# Altium footprint library Connector_PinHeader_2.54mm.PcbLib: 278 footprints (part 1 of 18)
Each footprint in its own frame and in the unit in brackets; x right, y up, seen from the top. Pads: shape width x height; smd on the part's side, far side on the other; paste and mask are expansions set on the pad; w line width, h text height; cw(c..) or ccw(c..) is an arc to the next point about the centre after c.
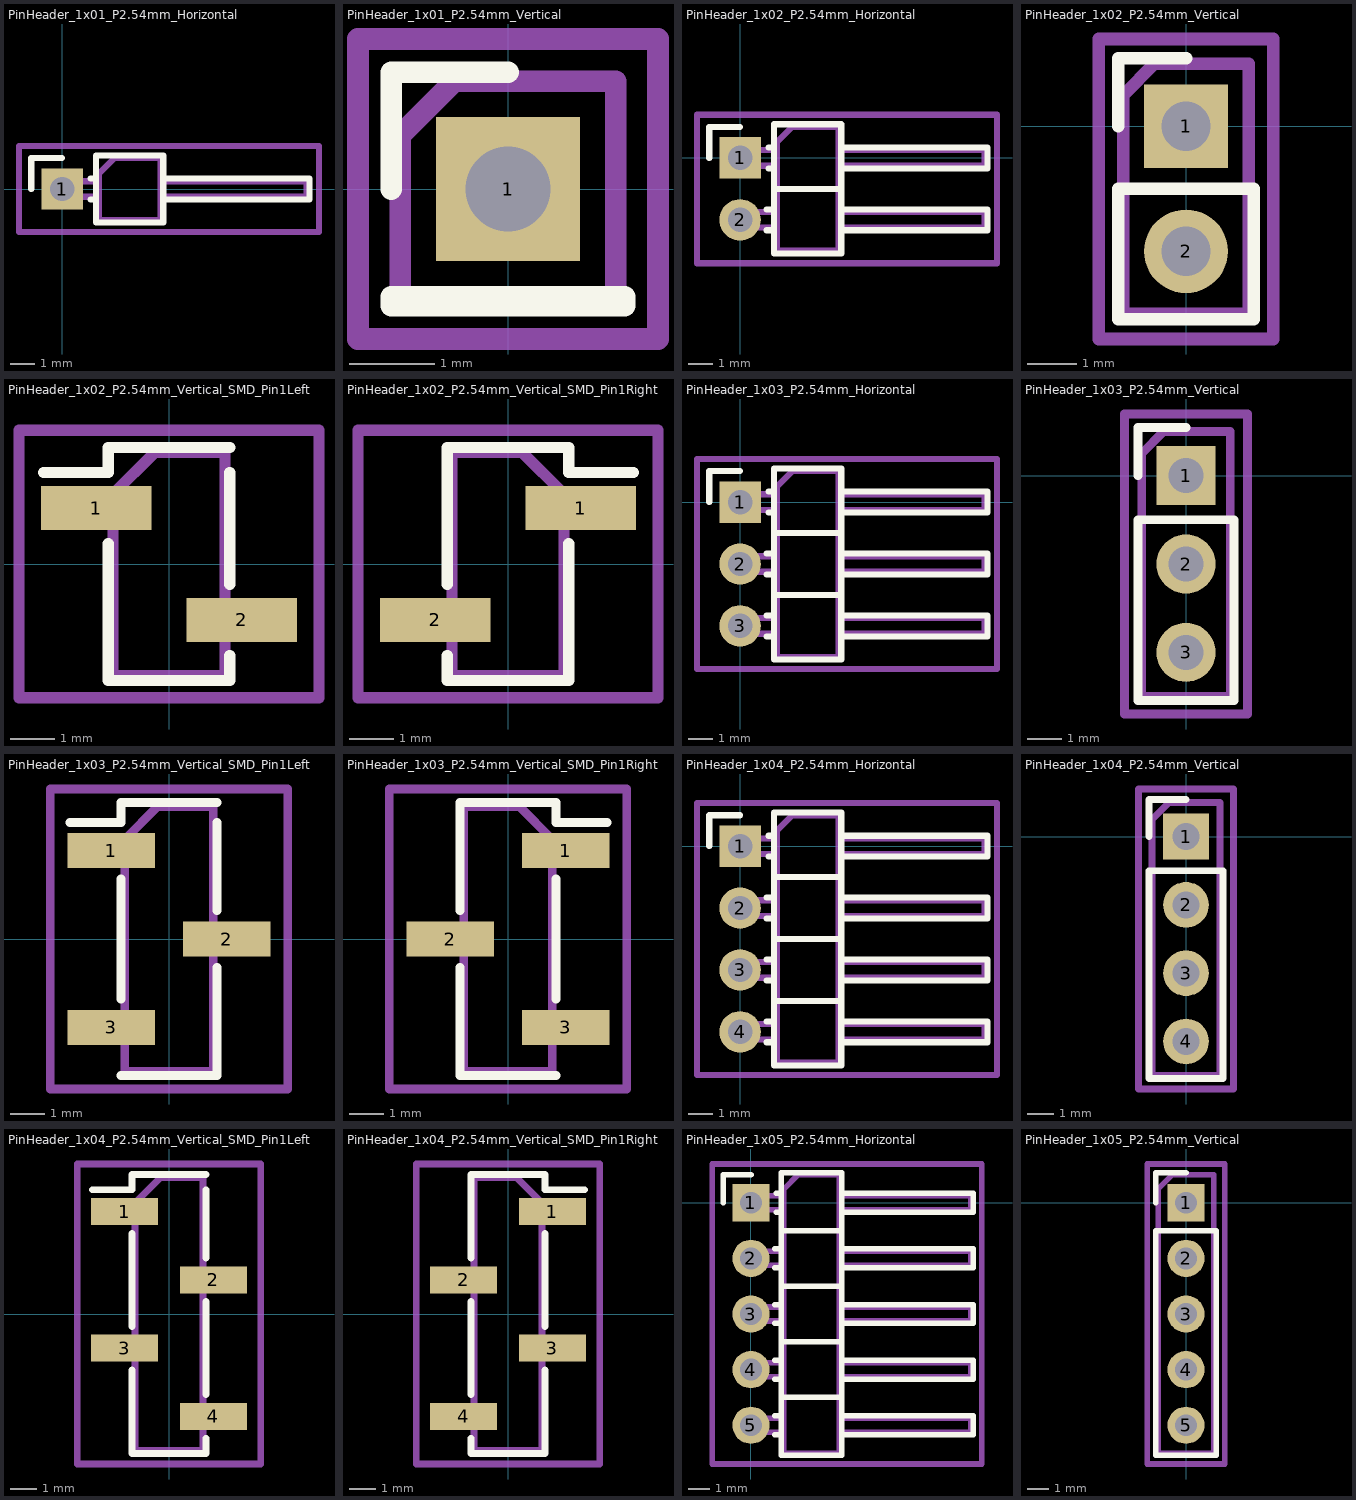
[diagram p0: the footprints below, top view; thin cyan lines are the x and y axes]

## PinHeader_1x01_P2.54mm_Horizontal [mm]
pads (1):
  rect 1.7x1.7 hole 1: 1(0,0)
F.SilkS:
  lines w0.254: -1.27,0 -1.27,1.27 0,1.27 ; 1.16,-0.43 1.39,-0.43 ; 1.16,0.43 1.39,0.43 ; 1.39,-1.38 1.39,1.38 4.15,1.38 4.15,-1.38 1.39,-1.38 ; 4.15,-0.43 4.15,0.43 10.15,0.43 10.15,-0.43 4.15,-0.43
Top Assembly:
  lines w0.254: 1.5,-0.32 -0.32,-0.32 -0.32,0.32 1.5,0.32 ; 4.04,-0.32 10.04,-0.32 10.04,0.32 4.04,0.32 ; 1.5,-1.27 1.5,0.635 2.135,1.27 4.04,1.27 4.04,-1.27 1.5,-1.27
  text "'.Designator'" at 3.61,-4.047 h1
Top Courtyard:
  lines w0.254: -1.77,-1.77 -1.77,1.77 10.54,1.77 10.54,-1.77 -1.77,-1.77
Top Designator:
  text ".Designator" at -3.233,-0.658 h1.52

## PinHeader_1x01_P2.54mm_Vertical [mm]
pads (1):
  rect 1.7x1.7 hole 1: 1(0,0)
F.SilkS:
  lines w0.254: -1.38,0 -1.38,1.38 0,1.38 ; -1.38,-1.38 1.38,-1.38 1.38,-1.27 -1.38,-1.27 -1.38,-1.38
Top Assembly:
  lines w0.254: -1.27,-1.27 1.27,-1.27 1.27,1.27 -0.635,1.27 -1.27,0.635 -1.27,-1.27
  text "'.Designator'" at 0.84,-4.047 h1
Top Courtyard:
  lines w0.254: -1.77,-1.77 1.77,-1.77 1.77,1.77 -1.77,1.77 -1.77,-1.77
Top Designator:
  text ".Designator" at -7.618,-0.658 h1.52

## PinHeader_1x02_P2.54mm_Horizontal [mm]
pads (2):
  rect 1.7x1.7 hole 1: 1(0,0)
  round 1.7 hole 1: 2(0,-2.54)
F.SilkS:
  lines w0.254: -1.27,0 -1.27,1.27 0,1.27 ; 1.077,-2.97 1.39,-2.97 ; 1.077,-2.11 1.39,-2.11 ; 1.16,-0.43 1.39,-0.43 ; 1.16,0.43 1.39,0.43 ; 1.39,-1.27 4.15,-1.27 ; 4.15,-2.97 10.15,-2.97 10.15,-2.11 4.15,-2.11 ; 1.39,-3.92 4.15,-3.92 4.15,1.38 1.39,1.38 1.39,-3.92 ; 4.15,-0.43 10.15,-0.43 10.15,0.43 4.15,0.43 4.15,-0.43
Top Assembly:
  lines w0.254: 1.5,-2.86 -0.32,-2.86 -0.32,-2.22 1.5,-2.22 ; 1.5,-0.32 -0.32,-0.32 -0.32,0.32 1.5,0.32 ; 4.04,-2.86 10.04,-2.86 10.04,-2.22 4.04,-2.22 ; 4.04,-0.32 10.04,-0.32 10.04,0.32 4.04,0.32 ; 1.5,-3.81 4.04,-3.81 4.04,1.27 2.135,1.27 1.5,0.635 1.5,-3.81
  text "'.Designator'" at 3.61,-5.317 h1
Top Courtyard:
  lines w0.254: -1.77,-4.32 10.54,-4.32 10.54,1.77 -1.77,1.77 -1.77,-4.32
Top Designator:
  text ".Designator" at -3.233,-1.928 h1.52

## PinHeader_1x02_P2.54mm_Vertical [mm]
pads (2):
  rect 1.7x1.7 hole 1: 1(0,0)
  round 1.7 hole 1: 2(0,-2.54)
F.SilkS:
  lines w0.254: -1.38,0 -1.38,1.38 0,1.38 ; -1.38,-3.92 1.38,-3.92 1.38,-1.27 -1.38,-1.27 -1.38,-3.92
Top Assembly:
  lines w0.254: -1.27,-3.81 1.27,-3.81 1.27,1.27 -0.635,1.27 -1.27,0.635 -1.27,-3.81
  text "'.Designator'" at 0.84,-5.317 h1
Top Courtyard:
  lines w0.254: -1.77,-4.32 1.77,-4.32 1.77,1.77 -1.77,1.77 -1.77,-4.32
Top Designator:
  text ".Designator" at -7.618,-1.928 h1.52

## PinHeader_1x02_P2.54mm_Vertical_SMD_Pin1Left [mm]
pads (2):
  rect 2.51x1 smd: 1(-1.655,1.27) 2(1.655,-1.27)
F.SilkS:
  lines w0.254: -2.85,2.08 -1.38,2.08 -1.38,2.65 1.38,2.65 ; -1.38,0.46 -1.38,-2.65 1.38,-2.65 1.38,-2.08 ; 1.38,-0.46 1.38,2.08
Top Assembly:
  lines w0.254: -1.27,0.95 -2.54,0.95 -2.54,1.59 -1.27,1.59 ; 1.27,-1.59 2.54,-1.59 2.54,-0.95 1.27,-0.95 ; -1.27,1.59 -1.27,-2.54 1.27,-2.54 1.27,2.54 -0.32,2.54 -1.27,1.59
  text "'.Designator'" at 0.84,-4.047 h1
Top Courtyard:
  lines w0.254: -3.41,-3.04 3.41,-3.04 3.41,3.04 -3.41,3.04 -3.41,-3.04
Top Designator:
  text ".Designator" at -7.618,-0.658 h1.52

## PinHeader_1x02_P2.54mm_Vertical_SMD_Pin1Right [mm]
pads (2):
  rect 2.51x1 smd: 1(1.655,1.27) 2(-1.655,-1.27)
F.SilkS:
  lines w0.254: -1.38,-2.08 -1.38,-2.65 1.38,-2.65 1.38,0.46 ; -1.38,2.08 -1.38,-0.46 -1.38,2.65 1.38,2.65 1.38,2.08 2.85,2.08
Top Assembly:
  lines w0.254: -1.27,-1.59 -2.54,-1.59 -2.54,-0.95 -1.27,-0.95 ; 1.27,0.95 2.54,0.95 2.54,1.59 1.27,1.59 ; 1.27,1.59 1.27,-2.54 -1.27,-2.54 -1.27,2.54 0.32,2.54 1.27,1.59
  text "'.Designator'" at 0.84,-4.047 h1
Top Courtyard:
  lines w0.254: -3.41,-3.04 3.41,-3.04 3.41,3.04 -3.41,3.04 -3.41,-3.04
Top Designator:
  text ".Designator" at -7.618,-0.658 h1.52

## PinHeader_1x03_P2.54mm_Horizontal [mm]
pads (3):
  rect 1.7x1.7 hole 1: 1(0,0)
  round 1.7 hole 1: 2(0,-2.54) 3(0,-5.08)
F.SilkS:
  lines w0.254: -1.27,0 -1.27,1.27 0,1.27 ; 1.077,-5.51 1.39,-5.51 ; 1.077,-4.65 1.39,-4.65 ; 1.077,-2.97 1.39,-2.97 ; 1.077,-2.11 1.39,-2.11 ; 1.16,-0.43 1.39,-0.43 ; 1.16,0.43 1.39,0.43 ; 1.39,-3.81 4.15,-3.81 ; 1.39,-1.27 4.15,-1.27 ; 4.15,-5.51 10.15,-5.51 10.15,-4.65 4.15,-4.65 ; 4.15,-2.97 10.15,-2.97 10.15,-2.11 4.15,-2.11 ; 1.39,-6.46 4.15,-6.46 4.15,1.38 1.39,1.38 1.39,-6.46 ; 4.15,-0.43 10.15,-0.43 10.15,0.43 4.15,0.43 4.15,-0.43
Top Assembly:
  lines w0.254: 1.5,-5.4 -0.32,-5.4 -0.32,-4.76 1.5,-4.76 ; 1.5,-2.86 -0.32,-2.86 -0.32,-2.22 1.5,-2.22 ; 1.5,-0.32 -0.32,-0.32 -0.32,0.32 1.5,0.32 ; 4.04,-5.4 10.04,-5.4 10.04,-4.76 4.04,-4.76 ; 4.04,-2.86 10.04,-2.86 10.04,-2.22 4.04,-2.22 ; 4.04,-0.32 10.04,-0.32 10.04,0.32 4.04,0.32 ; 1.5,-6.35 4.04,-6.35 4.04,1.27 2.135,1.27 1.5,0.635 1.5,-6.35
  text "'.Designator'" at 3.61,-6.587 h1
Top Courtyard:
  lines w0.254: -1.77,-6.85 10.54,-6.85 10.54,1.77 -1.77,1.77 -1.77,-6.85
Top Designator:
  text ".Designator" at -3.233,-3.048 h1.52

## PinHeader_1x03_P2.54mm_Vertical [mm]
pads (3):
  rect 1.7x1.7 hole 1: 1(0,0)
  round 1.7 hole 1: 2(0,-2.54) 3(0,-5.08)
F.SilkS:
  lines w0.254: -1.38,0 -1.38,1.38 0,1.38 ; -1.38,-6.46 1.38,-6.46 1.38,-1.27 -1.38,-1.27 -1.38,-6.46
Top Assembly:
  lines w0.254: -1.27,-6.35 1.27,-6.35 1.27,1.27 -0.635,1.27 -1.27,0.635 -1.27,-6.35
  text "'.Designator'" at 0.84,-6.587 h1
Top Courtyard:
  lines w0.254: -1.77,-6.85 1.77,-6.85 1.77,1.77 -1.77,1.77 -1.77,-6.85
Top Designator:
  text ".Designator" at -7.618,-3.048 h1.52

## PinHeader_1x03_P2.54mm_Vertical_SMD_Pin1Left [mm]
pads (3):
  rect 2.51x1 smd: 1(-1.655,2.54) 2(1.655,0) 3(-1.655,-2.54)
F.SilkS:
  lines w0.254: -2.85,3.35 -1.38,3.35 -1.38,3.92 1.38,3.92 ; -1.38,-3.92 1.38,-3.92 ; -1.38,-1.73 -1.38,1.73 ; 1.38,-3.35 1.38,-3.92 ; 1.38,-0.81 1.38,-3.92 ; 1.38,0.81 1.38,3.35
Top Assembly:
  lines w0.254: -1.27,-2.86 -2.54,-2.86 -2.54,-2.22 -1.27,-2.22 ; -1.27,2.22 -2.54,2.22 -2.54,2.86 -1.27,2.86 ; 1.27,-0.32 2.54,-0.32 2.54,0.32 1.27,0.32 ; -1.27,2.86 -1.27,-3.81 1.27,-3.81 1.27,3.81 -0.32,3.81 -1.27,2.86
  text "'.Designator'" at 0.84,-4.047 h1
Top Courtyard:
  lines w0.254: -3.41,-4.31 3.41,-4.31 3.41,4.31 -3.41,4.31 -3.41,-4.31
Top Designator:
  text ".Designator" at -7.618,-0.508 h1.52

## PinHeader_1x03_P2.54mm_Vertical_SMD_Pin1Right [mm]
pads (3):
  rect 2.51x1 smd: 1(1.655,2.54) 2(-1.655,0) 3(1.655,-2.54)
F.SilkS:
  lines w0.254: -1.38,-3.35 -1.38,-3.92 ; -1.38,-0.81 -1.38,-3.92 ; -1.38,3.35 -1.38,0.81 -1.38,3.92 1.38,3.92 1.38,3.35 2.85,3.35 ; 1.38,-3.92 -1.38,-3.92 ; 1.38,-1.73 1.38,1.73
Top Assembly:
  lines w0.254: -1.27,-0.32 -2.54,-0.32 -2.54,0.32 -1.27,0.32 ; 1.27,-2.86 2.54,-2.86 2.54,-2.22 1.27,-2.22 ; 1.27,2.22 2.54,2.22 2.54,2.86 1.27,2.86 ; 1.27,2.86 1.27,-3.81 -1.27,-3.81 -1.27,3.81 0.32,3.81 1.27,2.86
  text "'.Designator'" at 0.84,-4.047 h1
Top Courtyard:
  lines w0.254: -3.41,-4.31 3.41,-4.31 3.41,4.31 -3.41,4.31 -3.41,-4.31
Top Designator:
  text ".Designator" at -7.618,-0.508 h1.52

## PinHeader_1x04_P2.54mm_Horizontal [mm]
pads (4):
  rect 1.7x1.7 hole 1: 1(0,0)
  round 1.7 hole 1: 2(0,-2.54) 3(0,-5.08) 4(0,-7.62)
F.SilkS:
  lines w0.254: -1.27,0 -1.27,1.27 0,1.27 ; 1.077,-8.05 1.39,-8.05 ; 1.077,-7.19 1.39,-7.19 ; 1.077,-5.51 1.39,-5.51 ; 1.077,-4.65 1.39,-4.65 ; 1.077,-2.97 1.39,-2.97 ; 1.077,-2.11 1.39,-2.11 ; 1.16,-0.43 1.39,-0.43 ; 1.16,0.43 1.39,0.43 ; 1.39,-6.35 4.15,-6.35 ; 1.39,-3.81 4.15,-3.81 ; 1.39,-1.27 4.15,-1.27 ; 4.15,-8.05 10.15,-8.05 10.15,-7.19 4.15,-7.19 ; 4.15,-5.51 10.15,-5.51 10.15,-4.65 4.15,-4.65 ; 4.15,-2.97 10.15,-2.97 10.15,-2.11 4.15,-2.11 ; 1.39,-9 4.15,-9 4.15,1.38 1.39,1.38 1.39,-9 ; 4.15,-0.43 10.15,-0.43 10.15,0.43 4.15,0.43 4.15,-0.43
Top Assembly:
  lines w0.254: 1.5,-7.94 -0.32,-7.94 -0.32,-7.3 1.5,-7.3 ; 1.5,-5.4 -0.32,-5.4 -0.32,-4.76 1.5,-4.76 ; 1.5,-2.86 -0.32,-2.86 -0.32,-2.22 1.5,-2.22 ; 1.5,-0.32 -0.32,-0.32 -0.32,0.32 1.5,0.32 ; 4.04,-7.94 10.04,-7.94 10.04,-7.3 4.04,-7.3 ; 4.04,-5.4 10.04,-5.4 10.04,-4.76 4.04,-4.76 ; 4.04,-2.86 10.04,-2.86 10.04,-2.22 4.04,-2.22 ; 4.04,-0.32 10.04,-0.32 10.04,0.32 4.04,0.32 ; 1.5,-8.89 4.04,-8.89 4.04,1.27 2.135,1.27 1.5,0.635 1.5,-8.89
  text "'.Designator'" at 3.61,-7.857 h1
Top Courtyard:
  lines w0.254: -1.77,-9.39 10.54,-9.39 10.54,1.77 -1.77,1.77 -1.77,-9.39
Top Designator:
  text ".Designator" at -3.233,-4.318 h1.52

## PinHeader_1x04_P2.54mm_Vertical [mm]
pads (4):
  rect 1.7x1.7 hole 1: 1(0,0)
  round 1.7 hole 1: 2(0,-2.54) 3(0,-5.08) 4(0,-7.62)
F.SilkS:
  lines w0.254: -1.38,0 -1.38,1.38 0,1.38 ; -1.38,-9 1.38,-9 1.38,-1.27 -1.38,-1.27 -1.38,-9
Top Assembly:
  lines w0.254: -1.27,-8.89 1.27,-8.89 1.27,1.27 -0.635,1.27 -1.27,0.635 -1.27,-8.89
  text "'.Designator'" at 0.84,-7.857 h1
Top Courtyard:
  lines w0.254: -1.77,-9.39 1.77,-9.39 1.77,1.77 -1.77,1.77 -1.77,-9.39
Top Designator:
  text ".Designator" at -7.618,-4.318 h1.52

## PinHeader_1x04_P2.54mm_Vertical_SMD_Pin1Left [mm]
pads (4):
  rect 2.51x1 smd: 1(-1.655,3.81) 2(1.655,1.27) 3(-1.655,-1.27) 4(1.655,-3.81)
F.SilkS:
  lines w0.254: -2.85,4.62 -1.38,4.62 -1.38,5.19 1.38,5.19 ; -1.38,-2.08 -1.38,-5.19 1.38,-5.19 1.38,-4.62 ; -1.38,-0.46 -1.38,3 ; 1.38,-3 1.38,0.46 ; 1.38,2.08 1.38,4.62
Top Assembly:
  lines w0.254: -1.27,-1.59 -2.54,-1.59 -2.54,-0.95 -1.27,-0.95 ; -1.27,3.49 -2.54,3.49 -2.54,4.13 -1.27,4.13 ; 1.27,-4.13 2.54,-4.13 2.54,-3.49 1.27,-3.49 ; 1.27,0.95 2.54,0.95 2.54,1.59 1.27,1.59 ; -1.27,4.13 -1.27,-5.08 1.27,-5.08 1.27,5.08 -0.32,5.08 -1.27,4.13
  text "'.Designator'" at 0.84,-4.047 h1
Top Courtyard:
  lines w0.254: -3.41,-5.58 3.41,-5.58 3.41,5.58 -3.41,5.58 -3.41,-5.58
Top Designator:
  text ".Designator" at -7.618,-0.508 h1.52

## PinHeader_1x04_P2.54mm_Vertical_SMD_Pin1Right [mm]
pads (4):
  rect 2.51x1 smd: 1(1.655,3.81) 2(-1.655,1.27) 3(1.655,-1.27) 4(-1.655,-3.81)
F.SilkS:
  lines w0.254: -1.38,-4.62 -1.38,-5.19 1.38,-5.19 1.38,-2.08 ; -1.38,-3 -1.38,0.46 ; -1.38,4.62 -1.38,2.08 -1.38,5.19 1.38,5.19 1.38,4.62 2.85,4.62 ; 1.38,-0.46 1.38,3
Top Assembly:
  lines w0.254: -1.27,-4.13 -2.54,-4.13 -2.54,-3.49 -1.27,-3.49 ; -1.27,0.95 -2.54,0.95 -2.54,1.59 -1.27,1.59 ; 1.27,-1.59 2.54,-1.59 2.54,-0.95 1.27,-0.95 ; 1.27,3.49 2.54,3.49 2.54,4.13 1.27,4.13 ; 1.27,4.13 1.27,-5.08 -1.27,-5.08 -1.27,5.08 0.32,5.08 1.27,4.13
  text "'.Designator'" at 0.84,-4.047 h1
Top Courtyard:
  lines w0.254: -3.41,-5.58 3.41,-5.58 3.41,5.58 -3.41,5.58 -3.41,-5.58
Top Designator:
  text ".Designator" at -7.618,-0.508 h1.52

## PinHeader_1x05_P2.54mm_Horizontal [mm]
pads (5):
  rect 1.7x1.7 hole 1: 1(0,0)
  round 1.7 hole 1: 2(0,-2.54) 3(0,-5.08) 4(0,-7.62) 5(0,-10.16)
F.SilkS:
  lines w0.254: -1.27,0 -1.27,1.27 0,1.27 ; 1.077,-10.59 1.39,-10.59 ; 1.077,-9.73 1.39,-9.73 ; 1.077,-8.05 1.39,-8.05 ; 1.077,-7.19 1.39,-7.19 ; 1.077,-5.51 1.39,-5.51 ; 1.077,-4.65 1.39,-4.65 ; 1.077,-2.97 1.39,-2.97 ; 1.077,-2.11 1.39,-2.11 ; 1.16,-0.43 1.39,-0.43 ; 1.16,0.43 1.39,0.43 ; 1.39,-8.89 4.15,-8.89 ; 1.39,-6.35 4.15,-6.35 ; 1.39,-3.81 4.15,-3.81 ; 1.39,-1.27 4.15,-1.27 ; 4.15,-10.59 10.15,-10.59 10.15,-9.73 4.15,-9.73 ; 4.15,-8.05 10.15,-8.05 10.15,-7.19 4.15,-7.19 ; 4.15,-5.51 10.15,-5.51 10.15,-4.65 4.15,-4.65 ; 4.15,-2.97 10.15,-2.97 10.15,-2.11 4.15,-2.11 ; 1.39,-11.54 4.15,-11.54 4.15,1.38 1.39,1.38 1.39,-11.54 ; 4.15,-0.43 10.15,-0.43 10.15,0.43 4.15,0.43 4.15,-0.43
Top Assembly:
  lines w0.254: 1.5,-10.48 -0.32,-10.48 -0.32,-9.84 1.5,-9.84 ; 1.5,-7.94 -0.32,-7.94 -0.32,-7.3 1.5,-7.3 ; 1.5,-5.4 -0.32,-5.4 -0.32,-4.76 1.5,-4.76 ; 1.5,-2.86 -0.32,-2.86 -0.32,-2.22 1.5,-2.22 ; 1.5,-0.32 -0.32,-0.32 -0.32,0.32 1.5,0.32 ; 4.04,-10.48 10.04,-10.48 10.04,-9.84 4.04,-9.84 ; 4.04,-7.94 10.04,-7.94 10.04,-7.3 4.04,-7.3 ; 4.04,-5.4 10.04,-5.4 10.04,-4.76 4.04,-4.76 ; 4.04,-2.86 10.04,-2.86 10.04,-2.22 4.04,-2.22 ; 4.04,-0.32 10.04,-0.32 10.04,0.32 4.04,0.32 ; 1.5,-11.43 4.04,-11.43 4.04,1.27 2.135,1.27 1.5,0.635 1.5,-11.43
  text "'.Designator'" at 3.61,-9.127 h1
Top Courtyard:
  lines w0.254: -1.77,-11.93 10.54,-11.93 10.54,1.77 -1.77,1.77 -1.77,-11.93
Top Designator:
  text ".Designator" at -3.233,-5.588 h1.52

## PinHeader_1x05_P2.54mm_Vertical [mm]
pads (5):
  rect 1.7x1.7 hole 1: 1(0,0)
  round 1.7 hole 1: 2(0,-2.54) 3(0,-5.08) 4(0,-7.62) 5(0,-10.16)
F.SilkS:
  lines w0.254: -1.38,0 -1.38,1.38 0,1.38 ; -1.38,-11.54 1.38,-11.54 1.38,-1.27 -1.38,-1.27 -1.38,-11.54
Top Assembly:
  lines w0.254: -1.27,-11.43 1.27,-11.43 1.27,1.27 -0.635,1.27 -1.27,0.635 -1.27,-11.43
  text "'.Designator'" at 0.84,-9.127 h1
Top Courtyard:
  lines w0.254: -1.77,-11.93 1.77,-11.93 1.77,1.77 -1.77,1.77 -1.77,-11.93
Top Designator:
  text ".Designator" at -7.618,-5.588 h1.52